# EAGLE library part NPNMSOP8 (library zetex)
NPN TRANSISTOR
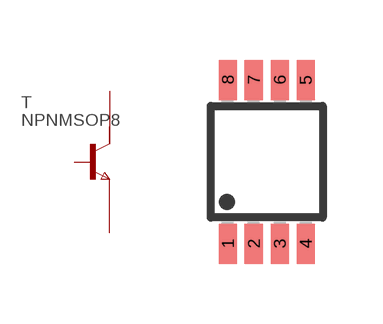
[diagram p18: symbol with the pads of MSOP8; footprint MSOP8]

Designator prefix T

## NPNMSOP8 (OC_FARNELL: unknown; OC_NEWARK: unknown)  [MSOP8]
1  E  pas
2  E1  pas
3  E2  pas
4  B  pas
5  C1  pas
6  C2  pas
7  C3  pas
8  C4  pas

## Footprint MSOP8 (pad centres in mm)
Micro Small Outline Package
smd 0.45 x 1: 1 -0.975,-2.05; 2 -0.325,-2.05; 3 0.325,-2.05; 4 0.975,-2.05; 5 0.975,2.05; 6 0.325,2.05; 7 -0.325,2.05; 8 -0.975,2.05